# Altium integrated library AUIR3314.IntLib: 1 symbol
Pins are listed as number, name and electrical type; pins without a type are passive.

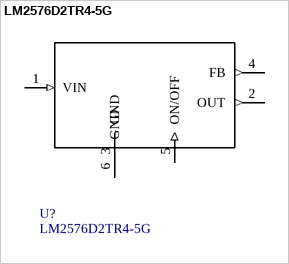
[diagram p0: symbol LM2576D2TR4-5G]

## LM2576D2TR4-5G
designator U?
Conv DC-DC Single Inv/Step Down 7V to 40V 6-Pin_5+Tab_ D2PAK T/R; MF: ON Semiconductor; Availability: Unavailable; SnapEDA_Link: https://www.snapeda.com/parts/LM2576D2TR4-5G/ON%20Semiconductor/view-part/?ref=snap; Price: None; Package: D2PAK ON Semiconductor; MP: LM2576D2TR4-5G; Value: *
footprint *D2PAK-5
pins: 1 VIN (in), 2 OUT (out), 3 GND, 4 FB (out), 5 ON/OFF (in), 6 GND